# EAGLE library part 25AA010A-I/MS (library Microchip_By_element14_Batch_1)
IC, EEPROM SERIAL 1KB, SMD
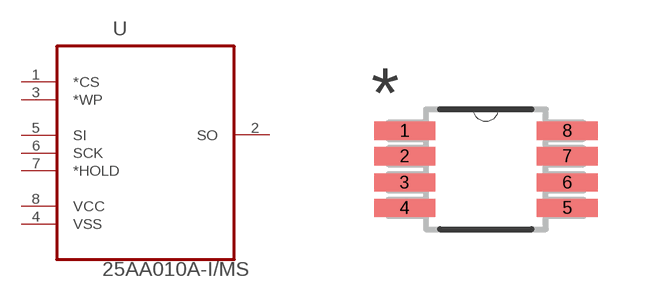
[diagram p101: symbol with the pads of SOP65P490X110-8N; footprint SOP65P490X110-8N]

Designator prefix U

## 25AA010A-I/MS (MPN: 25AA010A-I/MS; OC_FARNELL: 1331337; OC_NEWARK: 35M0793; PACKAGE: MSOP8; SUPPLIER: Microchip)  [SOP65P490X110-8N]
1  *CS  in
2  SO  out
3  *WP  in
4  VSS  pas
5  SI  in
6  SCK  in
7  *HOLD  in
8  VCC  pwr

## Footprint SOP65P490X110-8N (pad centres in mm)
smd 1.524 x 0.457: 1 -2.032,0.965; 2 -2.032,0.33; 3 -2.032,-0.33; 4 -2.032,-0.965; 5 2.032,-0.965; 6 2.032,-0.33; 7 2.032,0.33; 8 2.032,0.965